# EAGLE library part LTC3413 (library IC)
Linear Tech. LTC3413 3A, 2MHz Monolithic Synchronous Regulator for DDR/QDR memory termination
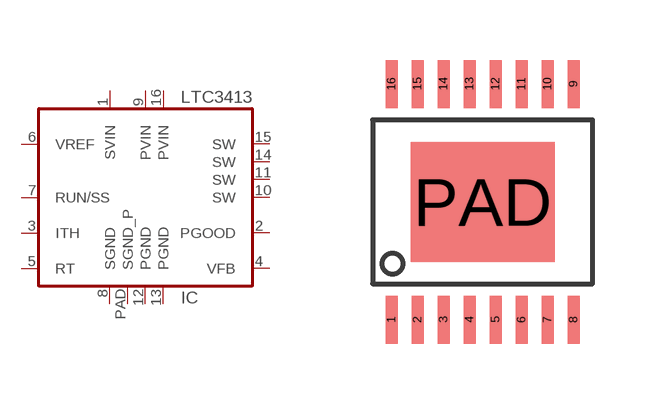
[diagram p99: symbol with the pads of TSSOP16_P; footprint TSSOP16_P]

Designator prefix IC

## LTC3413  [TSSOP16_P]
1  SVIN  pwr
2  PGOOD
3  ITH
4  VFB
5  RT
6  VREF
7  RUN/SS
8  SGND  pwr
9  PVIN  pwr
10  SW  pwr
11  SW  pwr
12  PGND  pwr
13  PGND  pwr
14  SW  pwr
15  SW
16  PVIN  pwr
PAD  SGND_P  pwr

## Footprint TSSOP16_P (pad centres in mm)
TSSOP16 with Pad (linear tech)
smd 0.3 x 1.2: 1 -2.275,-2.95; 2 -1.625,-2.95; 3 -0.975,-2.95; 4 -0.325,-2.95; 5 0.325,-2.95; 6 0.975,-2.95; 7 1.625,-2.95; 8 2.275,-2.95; 9 2.275,2.95; 10 1.625,2.95; 11 0.975,2.95; 12 0.325,2.95; 13 -0.325,2.95; 14 -0.975,2.95; 15 -1.625,2.95; 16 -2.275,2.95
smd 3.6 x 3: PAD 0,0